# Altium integrated library ALUMINUM ELECTROLYTIC CAPACITORS.IntLib: 1 symbol
Pins are listed as number, name and electrical type; pins without a type are passive.

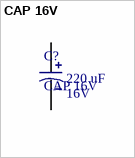
[diagram p0: symbol CAP 16V]

## CAP 16V
designator C?  Capacitance: 220 uF  Voltage: 16V
ALUMINUM ELECTROLYTIC CAPACITORS - SMD 220UF ±20% 16V SMD,6.3X7.7MM ROHS; Manufacturer: Lelon; MFR.Part #: VES221M1CTR-0607; ComponentLink1Description: Datasheet; ComponentLink1URL: https://datasheet.lcsc.com/szlcsc/Lelon-VES221M1CTR-0607_C127327.pdf; LCSC Part #: C127327; Package: SMD-ECAP-6.3x7.7
footprint PCBComponent_1
pins: 1, 2